# Altium footprint library ADP7118.PcbLib: 3 footprints
Each footprint in its own frame and in the unit in brackets; x right, y up, seen from the top. Pads: shape width x height; smd on the part's side, far side on the other; paste and mask are expansions set on the pad; w line width, h text height; cw(c..) or ccw(c..) is an arc to the next point about the centre after c.
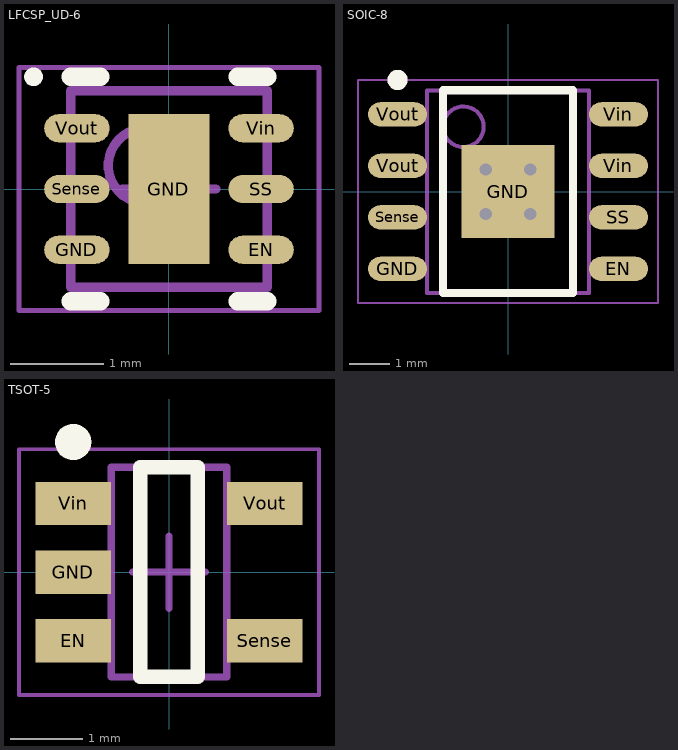
[diagram p0: the footprints below, top view; thin cyan lines are the x and y axes]

## LFCSP_UD-6 [mm] "Pin-LeadFrame-Chip-Scale-Package, 6 Pin, 2.0 x 2.0 mm, Ultra thin, Dual lead"
height 0.6
pads (7):
  oval 0.7x0.3 smd: EN(0.985,-0.65) GND(-0.985,-0.65) Sense(-0.985,0) SS(0.985,0) Vin(0.985,0.65) Vout(-0.985,0.65)
  rect 0.87x1.6 smd: GND(0,0)
Top Overlay:
  circle w0.1: c-1.45,1.2 r0.05
  lines w0.2: -1.05,-1.2 -0.735,-1.2 ; -1.05,1.2 -0.735,1.2 ; 0.735,-1.2 1.05,-1.2 ; 0.735,1.2 1.05,1.2
Assembly Top:
  circle w0.1: c-0.25,0.25 r0.4
  lines w0.1: -1.05,-1.05 1.05,-1.05 1.05,1.05 -1.05,1.05 -1.05,-1.05
Courtyard Top:
  lines w0.05: -1.605,-1.3 1.605,-1.3 1.605,1.3 -1.605,1.3 -1.605,-1.3
  lines w0.1: -0.5,0 0.5,0 ; 0,-0.5 0,0.5
3D body "SON65P200X60_HS-7N_.step": height 0.6, standoff 0, extent -1.07,-1.05 1.07,1.05

## SOIC-8 [mm] "SOIC, 8-Leads, Body 4.90x3.90mm, Pitch 1.27mm, Thermal Pad 2.29x2.29mm, IPC Medium Density"
height 1.75
pads (9):
  oval 1.45x0.6 smd: EN(2.725,-1.905) GND(-2.725,-1.905) Sense(-2.725,-0.635) SS(2.725,-0.635) Vin(2.725,0.635) Vin(2.725,1.905) Vout(-2.725,0.635) Vout(-2.725,1.905)
  rect 2.29x2.29 smd: GND(0,0)
via 0.55,-0.55 diameter 0.7 hole 0.3
via -0.55,-0.55 diameter 0.7 hole 0.3
via 0.55,0.55 diameter 0.7 hole 0.3
via -0.55,0.55 diameter 0.7 hole 0.3
Top Overlay:
  circle w0.25: c-2.725,2.755 r0.125
  lines w0.2: -1.6,-2.5 1.6,-2.5 1.6,2.5 -1.6,2.5 -1.6,-2.5
Assembly Top:
  circle w0.1: c-1.1,1.6 r0.5
  lines w0.1: -2,-2.5 2,-2.5 2,2.5 -2,2.5 -2,-2.5
Courtyard Top:
  lines w0.05: -3.7,-2.75 3.7,-2.75 3.7,2.75 -3.7,2.75 -3.7,-2.75
  lines w0.1: -0.5,0 0.5,0 ; 0,-0.5 0,0.5
3D body "SOIC127P600X175_HS-9N.step": height 1.75, standoff 0, extent -3,-2.46 3,2.54

## TSOT-5 [mm] "SOT23, 5-Leads, Body 2.90x2.80mm, Pitch 0.95mm, IPC Medium Density"
height 1
pads (5):
  rect 1.05x0.6 smd: EN(-1.325,-0.95) GND(-1.325,0) Sense(1.325,-0.95) Vin(-1.325,0.95) Vout(1.325,0.95)
Top Overlay:
  circle w0.25: c-1.325,1.8 r0.125
  lines w0.2: -0.4,-1.45 0.4,-1.45 0.4,1.45 -0.4,1.45 -0.4,-1.45
Assembly Top:
  lines w0.1: -0.8,-1.45 -0.8,1.45 0.8,1.45 0.8,-1.45 -0.8,-1.45
Courtyard Top:
  lines w0.05: -2.075,-1.7 -2.075,1.7 2.075,1.7 2.075,-1.7 -2.075,-1.7
  lines w0.1: -0.5,0 0.5,0 ; 0,-0.5 0,0.5
3D body "TSOT-5.step": height 1, standoff 0, extent -1.4,-1.45 1.4,1.45